# Altium footprint library Header 5.08 x 4.PcbLib: 1 footprints
Each footprint in its own frame and in the unit in brackets; x right, y up, seen from the top. Pads: shape width x height; smd on the part's side, far side on the other; paste and mask are expansions set on the pad; w line width, h text height; cw(c..) or ccw(c..) is an arc to the next point about the centre after c.
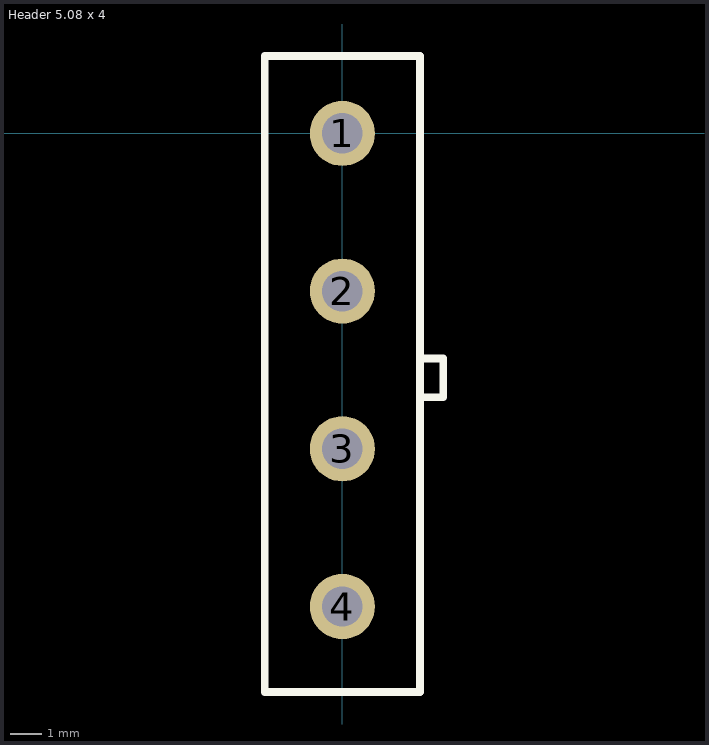
[diagram p0: the footprint, top view; thin cyan lines are the x and y axes]

## Header 5.08 x 4 [mm]
pads (4):
  round 2.1 hole 1.3: 1(0,0) 2(0,-5.08) 3(0,-10.16) 4(0,-15.24)
Top Overlay:
  lines w0.254: 2.5,-8.5 3.25,-8.5 3.25,-7.25 2.5,-7.25 ; -2.5,-18 -2.5,2.5 2.5,2.5 2.5,-18 -2.5,-18